# Altium footprint library OpBots.PcbLib: 39 footprints (part 3 of 3)
Each footprint in its own frame and in the unit in brackets; x right, y up, seen from the top. Pads: shape width x height; smd on the part's side, far side on the other; paste and mask are expansions set on the pad; w line width, h text height; cw(c..) or ccw(c..) is an arc to the next point about the centre after c.
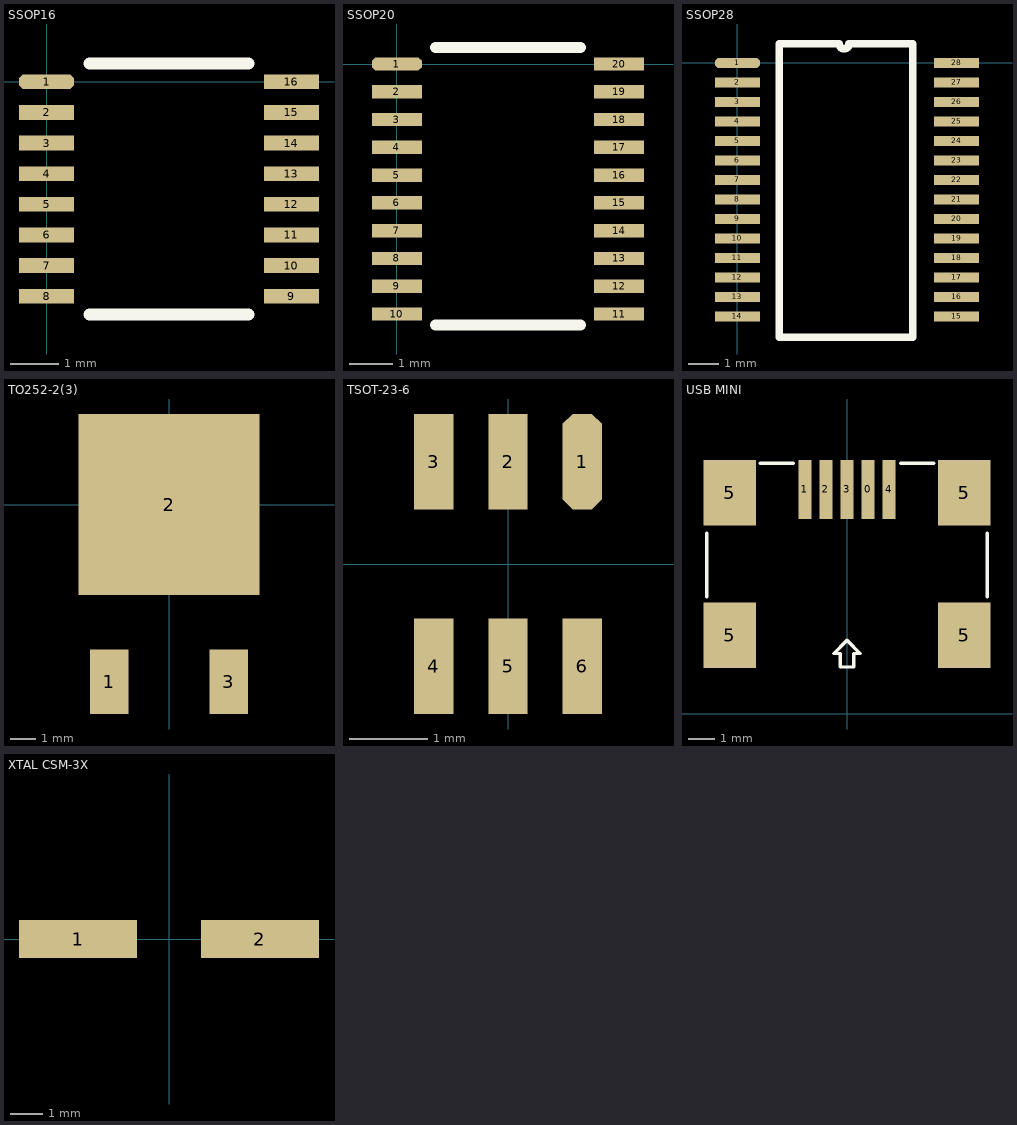
[diagram p2: the footprints below, top view; thin cyan lines are the x and y axes]

## SSOP16 [mil]
pads (16):
  oct 45x12 smd: 1(0,0)
  rect 45x12 smd: 2(0,-25) 3(0,-50) 4(0,-75) 5(0,-100) 6(0,-125) 7(0,-150) 8(0,-175) 9(200,-175) 10(200,-150) 11(200,-125) 12(200,-100) 13(200,-75) 14(200,-50) 15(200,-25) 16(200,0)
Top Overlay:
  lines w10: 35,-190 165,-190 ; 35,15 165,15
3D body: height 0, standoff 0, extent -26.5,-195 226.5,20

## SSOP20 [mil]
pads (20):
  oct 45x12 smd: 1(0,0)
  rect 45x12 smd: 2(0,-25) 3(0,-50) 4(0,-75) 5(0,-100) 6(0,-125) 7(0,-150) 8(0,-175) 9(0,-200) 10(0,-225) 11(200,-225) 12(200,-200) 13(200,-175) 14(200,-150) 15(200,-125) 16(200,-100) 17(200,-75) 18(200,-50) 19(200,-25) 20(200,0)
Top Overlay:
  lines w10: 35,-235 165,-235 ; 35,15 165,15
3D body: height 0, standoff 0, extent -26.5,-240 226.5,20

## SSOP28 [mm]
pads (28):
  oct 1.5x0.325 smd: 1(0,0)
  rect 1.5x0.325 smd: 2(0,-0.65) 3(0,-1.3) 4(0,-1.95) 5(0,-2.6) 6(0,-3.25) 7(0,-3.9) 8(0,-4.55) 9(0,-5.2) 10(0,-5.85) 11(0,-6.5) 12(0,-7.15) 13(0,-7.8) 14(0,-8.45) 15(7.3,-8.45) 16(7.3,-7.8) 17(7.3,-7.15) 18(7.3,-6.5) 19(7.3,-5.85) 20(7.3,-5.2) 21(7.3,-4.55) 22(7.3,-3.9) 23(7.3,-3.25) 24(7.3,-2.6) 25(7.3,-1.95) 26(7.3,-1.3) 27(7.3,-0.65) 28(7.3,0)
Top Overlay:
  lines w0.254: 3.302,0.635 1.397,0.635 1.397,-9.144 5.842,-9.144 5.842,0.635 3.81,0.635 ; 3.394,0.635 ccw(c3.556,0.635) 3.718,0.635
3D body: height 0, standoff 0, extent -0.762,-9.271 8.128,0.762

## TO252-2(3) [mil]
pads (3):
  rect 59x98 smd: 1(-91,-270) 3(91,-270)
  rect 276x276 smd: 2(0,0)

## TSOT-23-6 [mm]
height 1
pads (6):
  oct 0.5x1.22 smd: 1(0.95,1.31)
  rect 0.5x1.22 smd: 2(0,1.31) 3(-0.95,1.31) 4(-0.95,-1.31) 5(0,-1.31) 6(0.95,-1.31)

## USB MINI [mm]
height 4
pads (9):
  rect 0.5x2.25 smd: 0(0.8,8.525) 1(-1.6,8.525) 2(-0.8,8.525) 3(0,8.525) 4(1.6,8.525)
  rect 2x2.5 smd: 5(-4.45,2.98) 5(-4.45,8.4) 5(4.45,2.98) 5(4.45,8.4)
Top Overlay:
  lines w0.127: -5.334,4.445 -5.334,6.858 ; -3.302,9.525 -2.032,9.525 ; 2.032,9.525 3.302,9.525 ; 5.334,4.445 5.334,6.858 ; -0.508,2.286 0,2.794 0.508,2.286 0.254,2.286 0.254,1.778 -0.254,1.778 -0.254,2.286 -0.508,2.286
3D body: height 4, standoff 0, extent -5.552,1.628 5.552,9.752
3D body: height 4, standoff 0, extent -4.299,0.001 4.299,9.199

## XTAL CSM-3X [mm]
height 2
pads (2):
  rect 3.7x1.2 smd: 1(-2.85,0) 2(2.85,0)
3D body: height 2, standoff 0, extent -4.627,-2.177 4.627,2.177